# EAGLE library part SSQ-106-02-G-S-RA (library SSQ-106-02-G-S-RA)
Samtec SSQ Series 2.54mm 6 Way 1 Row Right Angle PCB Socket Through Hole Board to Board Source: Datasheet <http://suddendocs.samtec.com/catalog_english/ssq_th.pdf>
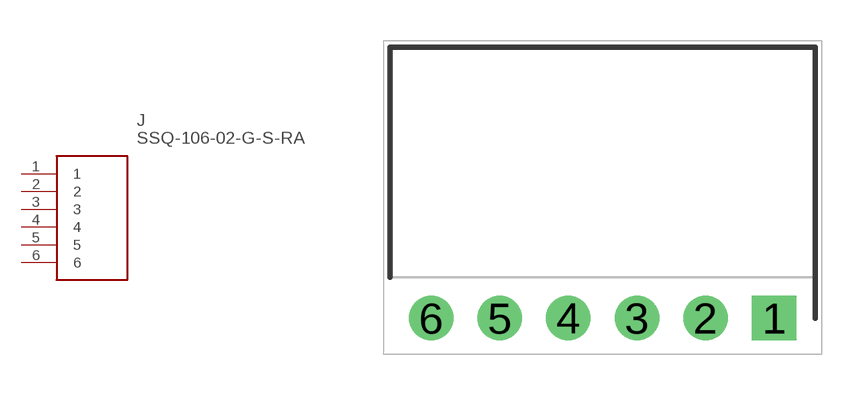
[diagram p0: symbol with the pads of RHDRRA6W64P254_1X6_1575X851X24; footprint RHDRRA6W64P254_1X6_1575X851X24]

Designator prefix J

## SSQ-106-02-G-S-RA (Description: Samtec SSQ Series 2.54mm 6 Way 1 Row Right Angle PCB Socket Through Hole Board to Board; Height: 2.41mm; Manufacturer_Name: SAMTEC; Manufacturer_Part_Number: SSQ-106-02-G-S-RA; Mouser_Part_Number: 200-SSQ10602GSRA; Mouser_Price-Stock: https://www.mouser.co.uk/ProductDetail/Samtec/SSQ-106-02-G-S-RA?qs=rU5fayqh%252BE34S8VhbDAmgg%3D%3D)  [RHDRRA6W64P254_1X6_1575X851X24]
1  1
2  2
3  3
4  4
5  5
6  6

## Footprint RHDRRA6W64P254_1X6_1575X851X24 (pad centres in mm)
SSQ-106-02-G-S-RA
drill 1.1 pad 1.65 square: 1 0,0
drill 1.1 pad 1.65: 2 -2.54,0; 3 -5.08,0; 4 -7.62,0; 5 -10.16,0; 6 -12.7,0